# Altium schematic symbol library LTC6810.SchLib: 4 symbols
Pins are listed as number, name and electrical type; pins without a type are passive.

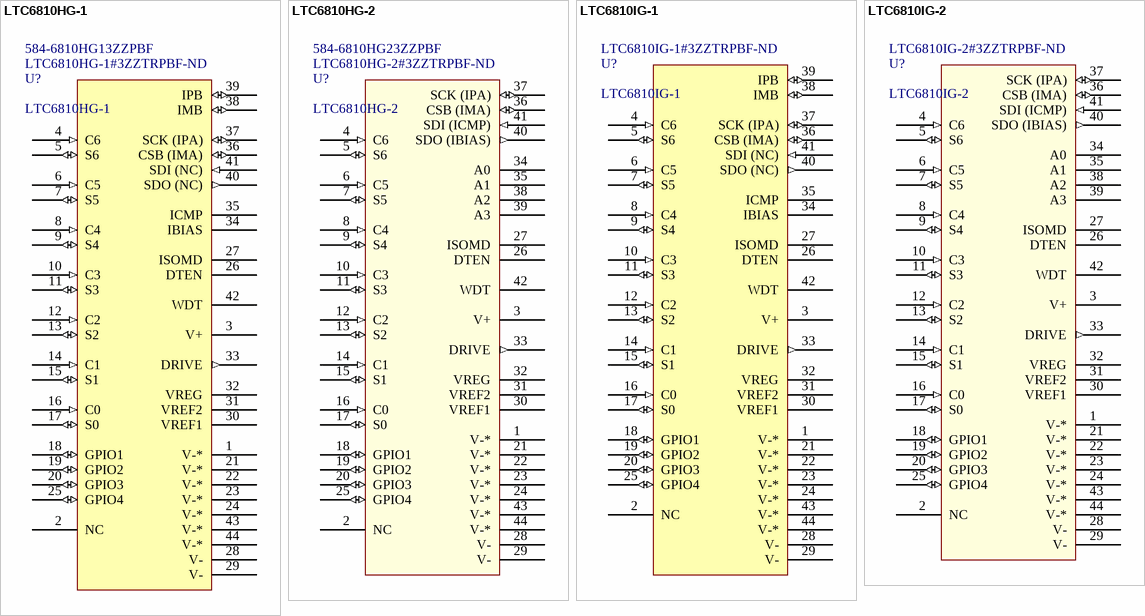
[diagram p0: symbols LTC6810HG-1 to LTC6810IG-2]

## LTC6810HG-1
designator U?  Supplier Part Number 1: LTC6810HG-1#3ZZTRPBF-ND  Supplier Part Number 2: 584-6810HG13ZZPBF
Linear Technology / 6-Channel Battery Stack Monitors / DaisyChain Mode / -40℃ ~ 125℃; Supplier 1: Digi-Key; Supplier 2: Mouser
footprint LTC 05-08-1754 (High) (LinearTechnology's G Package 44-Lead Plastic SSOP)
footprint LTC 05-08-1754 (Med) (LinearTechnology's G Package 44-Lead Plastic SSOP)
pins: 1 V-* (power), 2 NC, 3 V+ (power), 4 C6 (in), 5 S6 (io), 6 C5 (in), 7 S5 (io), 8 C4 (in), 9 S4 (io), 10 C3 (in), 11 S3 (io), 12 C2 (in), 13 S2 (io), 14 C1 (in), 15 S1 (io), 16 C0 (in), 17 S0 (io), 18 GPIO1 (io), 19 GPIO2 (io), 20 GPIO3 (io), 21 V-* (power), 22 V-* (power), 23 V-* (power), 24 V-* (power), 25 GPIO4 (io), 26 DTEN, 27 ISOMD, 28 V- (power), 29 V- (power), 30 VREF1, 31 VREF2, 32 VREG, 33 DRIVE (out), 34 IBIAS, 35 ICMP, 36 CSB (IMA) (io), 37 SCK (IPA) (io), 38 IMB (io), 39 IPB (io), 40 SDO (NC) (out), 41 SDI (NC) (in), 42 WDT, 43 V-* (power), 44 V-* (power)

## LTC6810HG-2
designator U?  Supplier Part Number 1: LTC6810HG-2#3ZZTRPBF-ND  Supplier Part Number 2: 584-6810HG23ZZPBF
Linear Technology / 6-Channel Battery Stack Monitors / Addressing Mode / -40℃ ~ 125℃; Supplier 1: Digi-Key; Supplier 2: Mouser
footprint LTC 05-08-1754 (High) (LinearTechnology's G Package 44-Lead Plastic SSOP)
footprint LTC 05-08-1754 (Med) (LinearTechnology's G Package 44-Lead Plastic SSOP)
pins: 1 V-* (power), 2 NC, 3 V+ (power), 4 C6 (in), 5 S6 (io), 6 C5 (in), 7 S5 (io), 8 C4 (in), 9 S4 (io), 10 C3 (in), 11 S3 (io), 12 C2 (in), 13 S2 (io), 14 C1 (in), 15 S1 (io), 16 C0 (in), 17 S0 (io), 18 GPIO1 (io), 19 GPIO2 (io), 20 GPIO3 (io), 21 V-* (power), 22 V-* (power), 23 V-* (power), 24 V-* (power), 25 GPIO4 (io), 26 DTEN, 27 ISOMD, 28 V- (power), 29 V- (power), 30 VREF1, 31 VREF2, 32 VREG, 33 DRIVE (out), 34 A0, 35 A1, 36 CSB (IMA) (io), 37 SCK (IPA) (io), 38 A2, 39 A3, 40 SDO (IBIAS) (out), 41 SDI (ICMP) (in), 42 WDT, 43 V-* (power), 44 V-* (power)

## LTC6810IG-1
designator U?  Supplier Part Number 1: LTC6810IG-1#3ZZTRPBF-ND
Linear Technology / 6-Channel Battery Stack Monitors / DaisyChain Mode / -40℃ ~ 85℃; Supplier 1: Digi-Key
footprint LTC 05-08-1754 (High) (LinearTechnology's G Package 44-Lead Plastic SSOP)
footprint LTC 05-08-1754 (Med) (LinearTechnology's G Package 44-Lead Plastic SSOP)
pins: 1 V-* (power), 2 NC, 3 V+ (power), 4 C6 (in), 5 S6 (io), 6 C5 (in), 7 S5 (io), 8 C4 (in), 9 S4 (io), 10 C3 (in), 11 S3 (io), 12 C2 (in), 13 S2 (io), 14 C1 (in), 15 S1 (io), 16 C0 (in), 17 S0 (io), 18 GPIO1 (io), 19 GPIO2 (io), 20 GPIO3 (io), 21 V-* (power), 22 V-* (power), 23 V-* (power), 24 V-* (power), 25 GPIO4 (io), 26 DTEN, 27 ISOMD, 28 V- (power), 29 V- (power), 30 VREF1, 31 VREF2, 32 VREG, 33 DRIVE (out), 34 IBIAS, 35 ICMP, 36 CSB (IMA) (io), 37 SCK (IPA) (io), 38 IMB (io), 39 IPB (io), 40 SDO (NC) (out), 41 SDI (NC) (in), 42 WDT, 43 V-* (power), 44 V-* (power)

## LTC6810IG-2
designator U?  Supplier Part Number 1: LTC6810IG-2#3ZZTRPBF-ND
Linear Technology / 6-Channel Battery Stack Monitors / Addressing Mode / -40℃ ~ 85℃; Supplier 1: Digi-Key
footprint LTC 05-08-1754 (Med) (LinearTechnology's G Package 44-Lead Plastic SSOP)
footprint LTC 05-08-1754 (High) (LinearTechnology's G Package 44-Lead Plastic SSOP)
pins: 1 V-* (power), 2 NC, 3 V+ (power), 4 C6 (in), 5 S6 (io), 6 C5 (in), 7 S5 (io), 8 C4 (in), 9 S4 (io), 10 C3 (in), 11 S3 (io), 12 C2 (in), 13 S2 (io), 14 C1 (in), 15 S1 (io), 16 C0 (in), 17 S0 (io), 18 GPIO1 (io), 19 GPIO2 (io), 20 GPIO3 (io), 21 V-* (power), 22 V-* (power), 23 V-* (power), 24 V-* (power), 25 GPIO4 (io), 26 DTEN, 27 ISOMD, 28 V- (power), 29 V- (power), 30 VREF1, 31 VREF2, 32 VREG, 33 DRIVE (out), 34 A0, 35 A1, 36 CSB (IMA) (io), 37 SCK (IPA) (io), 38 A2, 39 A3, 40 SDO (IBIAS) (out), 41 SDI (ICMP) (in), 42 WDT, 43 V-* (power), 44 V-* (power)